# Altium integrated library maplemini.IntLib: 1 symbol
Pins are listed as number, name and electrical type; pins without a type are passive.

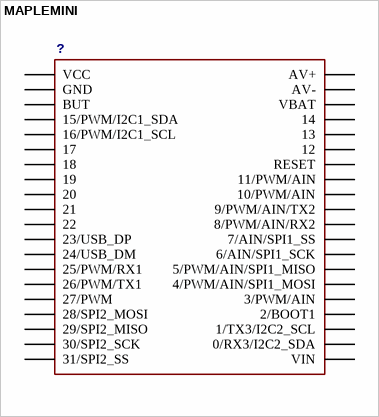
[diagram p0: symbol MAPLEMINI]

## MAPLEMINI
designator ?
footprint 20-DIP
pins: 1 VCC, 2 GND, 3 BUT, 4 15/PWM/I2C1_SDA, 5 16/PWM/I2C1_SCL, 6 17, 7 18, 8 19, 9 20, 10 21, 11 22, 12 23/USB_DP, 13 24/USB_DM, 14 25/PWM/RX1, 15 26/PWM/TX1, 16 27/PWM, 17 28/SPI2_MOSI, 18 29/SPI2_MISO, 19 30/SPI2_SCK, 20 31/SPI2_SS, 21 VIN, 22 0/RX3/I2C2_SDA, 23 1/TX3/I2C2_SCL, 24 2/BOOT1, 25 3/PWM/AIN, 26 4/PWM/AIN/SPI1_MOSI, 27 5/PWM/AIN/SPI1_MISO, 28 6/AIN/SPI1_SCK, 29 7/AIN/SPI1_SS, 30 8/PWM/AIN/RX2, 31 9/PWM/AIN/TX2, 32 10/PWM/AIN, 33 11/PWM/AIN, 34 RESET, 35 12, 36 13, 37 14, 38 VBAT, 39 AV-, 40 AV+